# EAGLE library part DEVBASIC-V1 (library CalvEngIO-Microcontrollers)
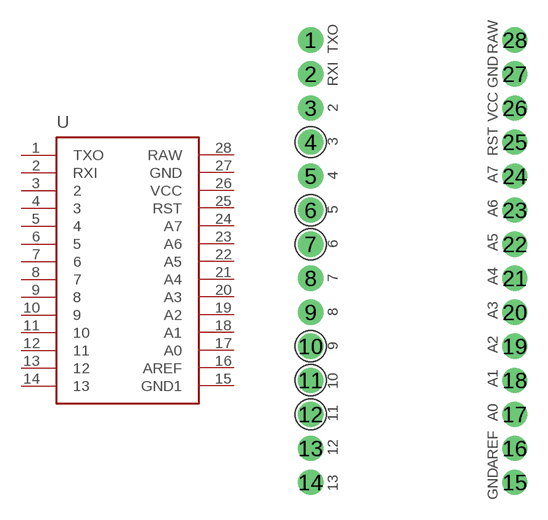
[diagram p0: symbol with the pads of DEVBIT-BASIC-V1; footprint DEVBIT-BASIC-V1]

Designator prefix -

## DEVBASIC-V1  [DEVBIT-BASIC-V1]
1  TXO
2  RXI
3  2
4  3
5  4
6  5
7  6
8  7
9  8
10  9
11  10
12  11
13  12
14  13
15  GND1
16  AREF
17  A0
18  A1
19  A2
20  A3
21  A4
22  A5
23  A6
24  A7
25  RST
26  VCC
27  GND
28  RAW

## Footprint DEVBIT-BASIC-V1 (pad centres in mm)
drill 1.016 pad 1.88: 1 -8.89,17.78; 2 -8.89,15.24; 3 -8.89,12.7; 4 -8.89,10.16; 5 -8.89,7.62; 6 -8.89,5.08; 7 -8.89,2.54; 8 -8.89,0; 9 -8.89,-2.54; 10 -8.89,-5.08; 11 -8.89,-7.62; 12 -8.89,-10.16; 13 -8.89,-12.7; 14 -8.89,-15.24; 15 6.35,-15.24; 16 6.35,-12.7; 17 6.35,-10.16; 18 6.35,-7.62; 19 6.35,-5.08; 20 6.35,-2.54; 21 6.35,0; 22 6.35,2.54; 23 6.35,5.08; 24 6.35,7.62; 25 6.35,10.16; 26 6.35,12.7; 27 6.35,15.24; 28 6.35,17.78